# Altium footprint library 控制板.PcbLib: 34 footprints (part 3 of 3)
Each footprint in its own frame and in the unit in brackets; x right, y up, seen from the top. Pads: shape width x height; smd on the part's side, far side on the other; paste and mask are expansions set on the pad; w line width, h text height; cw(c..) or ccw(c..) is an arc to the next point about the centre after c.
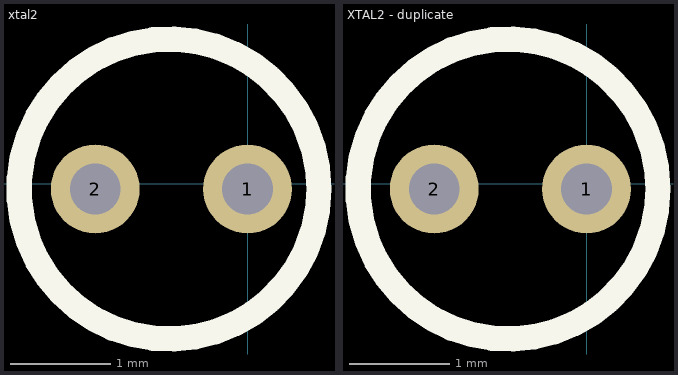
[diagram p2: the footprints below, top view; thin cyan lines are the x and y axes]

## xtal2 [mil]
height 270.08
pads (2):
  round 35 hole 20: 1(0,-2) 2(-60,-2)
Top Overlay:
  circle w10: c-30.94,-2 r59.06

## XTAL2 - duplicate [mil]
pads (2):
  round 35 hole 20: 1(0,-2) 2(-60,-2)
Top Overlay:
  circle w10: c-30.94,-2 r59.06